# EAGLE library part MOSFET-N-DUAL (library X893)
http://www.nxp.com/documents/data_sheet/2N7002BKS.pdf
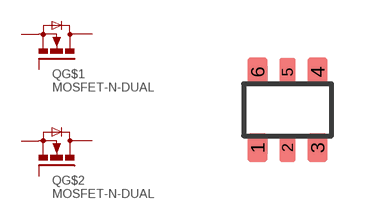
[diagram p195: symbol with the pads of SOT363; footprint SOT363]

Designator prefix Q; gates G$1=MFET-N G$2=MFET-N

## MOSFET-N-DUAL  [SOT363]
1  G$1:S  pas
2  G$1:G  pas
3  G$2:D  pas
4  G$2:S  pas
5  G$2:G  pas
6  G$1:D  pas

## Footprint SOT363 (pad centres in mm)
smd 0.5 x 0.7: 1 -0.75,-0.95; 3 0.75,-0.95; 4 0.75,0.95; 6 -0.75,0.95
smd 0.4 x 0.7: 2 0,-0.95; 5 0,0.95